# Altium footprint library WaterBoy_Library.PcbLib: 1 footprints
Each footprint in its own frame and in the unit in brackets; x right, y up, seen from the top. Pads: shape width x height; smd on the part's side, far side on the other; paste and mask are expansions set on the pad; w line width, h text height; cw(c..) or ccw(c..) is an arc to the next point about the centre after c.
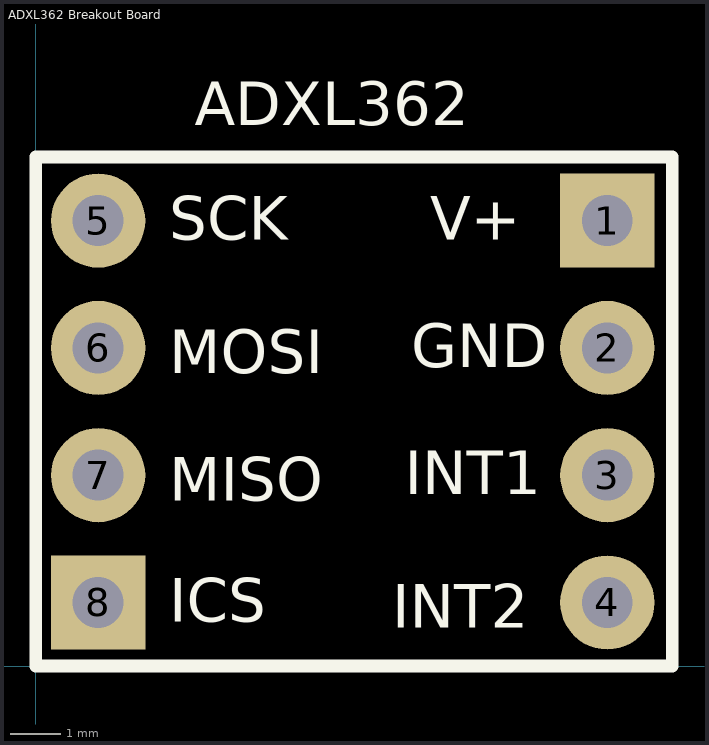
[diagram p0: the footprint, top view; thin cyan lines are the x and y axes]

## ADXL362 Breakout Board [mil]
pads (8):
  rect 74x74 / inner round 68.37 / far side rect 74x74 hole 40: 1(449,350) 8(49,50)
  round 74 hole 40: 2(449,250) 3(449,150) 4(449,50) 5(49,350) 6(49,250) 7(49,150)
Top Overlay:
  lines w10: 0,0 500,0 500,400 0,400 0,0
  text "ADXL362" at 125,425 h34
  text "ICS" at 105,35 h34
  text "MISO" at 105,130 h34
  text "MOSI" at 105,230 h34
  text "SCK" at 105,335 h34
  text "INT2" at 280,30 h34
  text "INT1" at 290,135 h34
  text "GND" at 295,235 h34
  text "V+" at 310,335 h34